# EAGLE library part MPT9 (library pluggable_terminal_blocks)
PHOENIX CONNECTOR
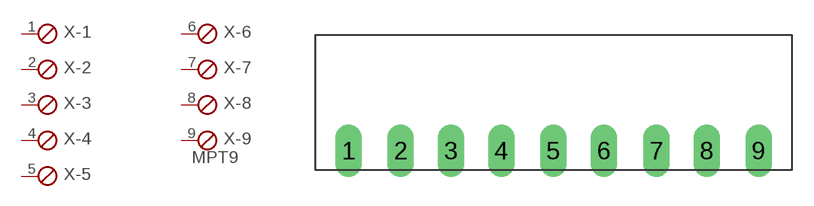
[diagram p3: symbol with the pads of 9POL35; footprint 9POL35]

Designator prefix X; gates -1=SKB -2=SKB -3=SKB -4=SKB -5=SKB -6=SKB -7=SKB -8=SKB -9=SKBV

## MPT9  [9POL35]
1  -1:1  pas
2  -2:1  pas
3  -3:1  pas
4  -4:1  pas
5  -5:1  pas
6  -6:1  pas
7  -7:1  pas
8  -8:1  pas
9  -9:1  pas

## Footprint 9POL35 (pad centres in mm)
PHOENIX CONNECTOR
drill 1.2 long: 1 -13.96,0; 2 -10.42,0; 3 -6.98,0; 4 -3.54,0; 5 0,0; 6 3.44,0; 7 7.03,0; 8 10.47,0; 9 14.01,0